# EAGLE library part ESP8266 (library ESP8266)
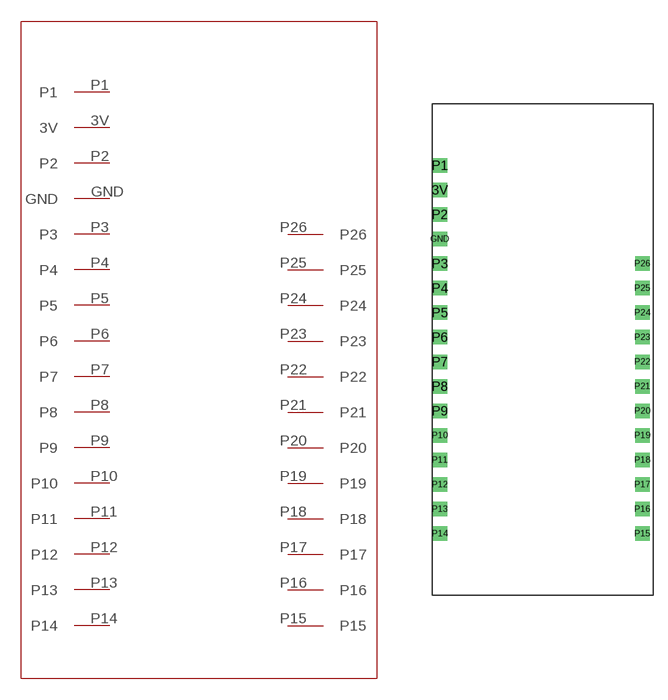
[diagram p0: symbol with the pads of ESP8266; footprint ESP8266]

Designator prefix -

## ESP8266  [ESP8266]
3V  3V
GND  GND
P1  P1
P2  P2
P3  P3
P4  P4
P5  P5
P6  P6
P7  P7
P8  P8
P9  P9
P10  P10
P11  P11
P12  P12
P13  P13
P14  P14
P15  P15
P16  P16
P17  P17
P18  P18
P19  P19
P20  P20
P21  P21
P22  P22
P23  P23
P24  P24
P25  P25
P26  P26

## Footprint ESP8266 (pad centres in mm)
drill 0.991 square: 3V 0,17.78; GND 0,12.7; P1 0,20.32; P2 0,15.24; P3 0,10.16; P4 0,7.62; P5 0,5.08; P6 0,2.54; P7 0,0; P8 0,-2.54; P9 0,-5.08; P10 0,-7.62; P11 0,-10.16; P12 0,-12.7; P13 0,-15.24; P14 0,-17.78; P15 20.955,-17.78; P16 20.955,-15.24; P17 20.955,-12.7; P18 20.955,-10.16; P19 20.955,-7.62; P20 20.955,-5.08; P21 20.955,-2.54; P22 20.955,0; P23 20.955,2.54; P24 20.955,5.08; P25 20.955,7.62; P26 20.955,10.16